# Altium integrated library Altium_BHD_IDC-Connectors (rev18b).IntLib: 18 symbols
Pins are listed as number, name and electrical type; pins without a type are passive.

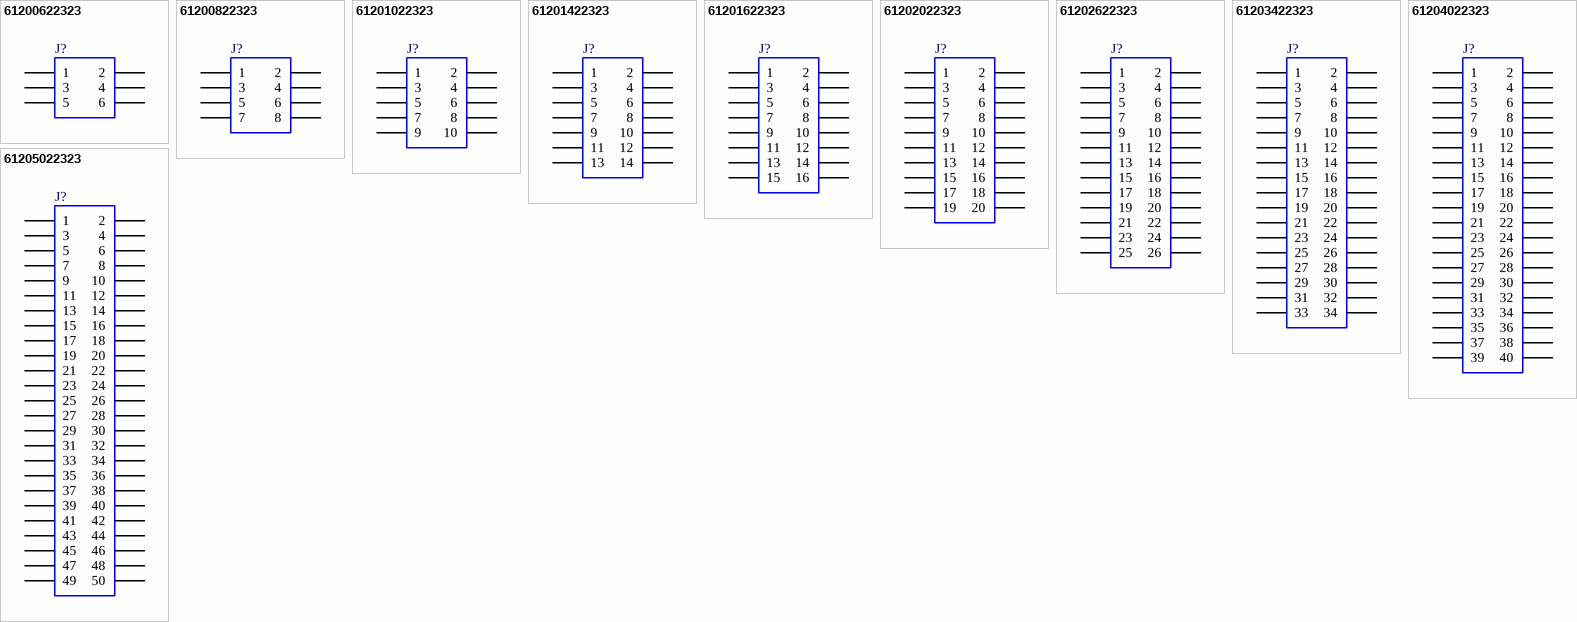
[diagram p0: symbols 61200622323 to 61205022323]

## 61200622323
designator J?
Board to Cable Transition Connector WR-BHD, pitch 2.54 mm, 6 pins; Part Number: 61200622323; Pin Number: 6; Pitch: 2.54 mm; Contact Resistance: 20 mOhm; Working Voltage: 250 VAC; ComponentLink1Description: Manufacturer; ComponentLink1URL: http://www.we-online.de; ComponentLink2Description: Datasheet; ComponentLink2URL: https://katalog.we-online.de/em/datasheet/6120xx22323.pdf; Published Date: September 2018; Publisher: Wurth Elektronik; Operating Temperature: -40 to 125 degC; Mounting Technology: THT; Packaging: Tray; Gender: Transition
footprint 61200622323
pins: 1, 2, 3, 4, 5, 6

## 61200822323
designator J?
Board to Cable Transition Connector WR-BHD, pitch 2.54 mm, 8 pins; Part Number: 61200822323; Pin Number: 8; Pitch: 2.54 mm; Contact Resistance: 20 mOhm; Working Voltage: 250 VAC; ComponentLink1Description: Manufacturer; ComponentLink1URL: http://www.we-online.de; ComponentLink2Description: Datasheet; ComponentLink2URL: https://katalog.we-online.de/em/datasheet/6120xx22323.pdf; Published Date: September 2018; Publisher: Wurth Elektronik; Operating Temperature: -40 to 125 degC; Mounting Technology: THT; Packaging: Tray; Gender: Transition
footprint 61200822323
pins: 1, 2, 3, 4, 5, 6, 7, 8

## 61201022323
designator J?
Board to Cable Transition Connector WR-BHD, pitch 2.54 mm, 10 pins; Part Number: 61201022323; Pin Number: 10; Pitch: 2.54 mm; Contact Resistance: 20 mOhm; Working Voltage: 250 VAC; ComponentLink1Description: Manufacturer; ComponentLink1URL: http://www.we-online.de; ComponentLink2Description: Datasheet; ComponentLink2URL: https://katalog.we-online.de/em/datasheet/6120xx22323.pdf; Published Date: September 2018; Publisher: Wurth Elektronik; Operating Temperature: -40 to 125 degC; Mounting Technology: THT; Packaging: Tray; Gender: Transition
footprint 61201022323
pins: 1, 2, 3, 4, 5, 6, 7, 8, 9, 10

## 61201422323
designator J?
Board to Cable Transition Connector WR-BHD, pitch 2.54 mm, 14 pins; Part Number: 61201422323; Pin Number: 14; Pitch: 2.54 mm; Contact Resistance: 20 mOhm; Working Voltage: 250 VAC; ComponentLink1Description: Manufacturer; ComponentLink1URL: http://www.we-online.de; ComponentLink2Description: Datasheet; ComponentLink2URL: https://katalog.we-online.de/em/datasheet/6120xx22323.pdf; Published Date: September 2018; Publisher: Wurth Elektronik; Operating Temperature: -40 to 125 degC; Mounting Technology: THT; Packaging: Tray; Gender: Transition
footprint 61201422323
pins: 1, 2, 3, 4, 5, 6, 7, 8, 9, 10, 11, 12, 13, 14

## 61201622323
designator J?
Board to Cable Transition Connector WR-BHD, pitch 2.54 mm, 16 pins; Part Number: 61201622323; Pin Number: 16; Pitch: 2.54 mm; Contact Resistance: 20 mOhm; Working Voltage: 250 VAC; ComponentLink1Description: Manufacturer; ComponentLink1URL: http://www.we-online.de; ComponentLink2Description: Datasheet; ComponentLink2URL: https://katalog.we-online.de/em/datasheet/6120xx22323.pdf; Published Date: September 2018; Publisher: Wurth Elektronik; Operating Temperature: -40 to 125 degC; Mounting Technology: THT; Packaging: Tray; Gender: Transition
footprint 61201622323
pins: 1, 2, 3, 4, 5, 6, 7, 8, 9, 10, 11, 12, 13, 14, 15, 16

## 61202022323
designator J?
Board to Cable Transition Connector WR-BHD, pitch 2.54 mm, 20 pins; Part Number: 61202022323; Pin Number: 20; Pitch: 2.54 mm; Contact Resistance: 20 mOhm; Working Voltage: 250 VAC; ComponentLink1Description: Manufacturer; ComponentLink1URL: http://www.we-online.de; ComponentLink2Description: Datasheet; ComponentLink2URL: https://katalog.we-online.de/em/datasheet/6120xx22323.pdf; Published Date: September 2018; Publisher: Wurth Elektronik; Operating Temperature: -40 to 125 degC; Mounting Technology: THT; Packaging: Tray; Gender: Transition
footprint 61202022323
pins: 1, 2, 3, 4, 5, 6, 7, 8, 9, 10, 11, 12, 13, 14, 15, 16, 17, 18, 19, 20

## 61202622323
designator J?
Board to Cable Transition Connector WR-BHD, pitch 2.54 mm, 26 pins; Part Number: 61202622323; Pin Number: 26; Pitch: 2.54 mm; Contact Resistance: 20 mOhm; Working Voltage: 250 VAC; ComponentLink1Description: Manufacturer; ComponentLink1URL: http://www.we-online.de; ComponentLink2Description: Datasheet; ComponentLink2URL: https://katalog.we-online.de/em/datasheet/6120xx22323.pdf; Published Date: September 2018; Publisher: Wurth Elektronik; Operating Temperature: -40 to 125 degC; Mounting Technology: THT; Packaging: Tray; Gender: Transition
footprint 61202622323
pins: 1, 2, 3, 4, 5, 6, 7, 8, 9, 10, 11, 12, 13, 14, 15, 16, 17, 18, 19, 20, 21, 22, 23, 24, 25, 26

## 61203422323
designator J?
Board to Cable Transition Connector WR-BHD, pitch 2.54 mm, 34 pins; Part Number: 61203422323; Pin Number: 34; Pitch: 2.54 mm; Contact Resistance: 20 mOhm; Working Voltage: 250 VAC; ComponentLink1Description: Manufacturer; ComponentLink1URL: http://www.we-online.de; ComponentLink2Description: Datasheet; ComponentLink2URL: https://katalog.we-online.de/em/datasheet/6120xx22323.pdf; Published Date: September 2018; Publisher: Wurth Elektronik; Operating Temperature: -40 to 125 degC; Mounting Technology: THT; Packaging: Tray; Gender: Transition
footprint 61203422323
pins: 1, 2, 3, 4, 5, 6, 7, 8, 9, 10, 11, 12, 13, 14, 15, 16, 17, 18, 19, 20, 21, 22, 23, 24, 25, 26, 27, 28, 29, 30, 31, 32, 33, 34

## 61204022323
designator J?
Board to Cable Transition Connector WR-BHD, pitch 2.54 mm, 40 pins; Part Number: 61204022323; Pin Number: 40; Pitch: 2.54 mm; Contact Resistance: 20 mOhm; Working Voltage: 250 VAC; ComponentLink1Description: Manufacturer; ComponentLink1URL: http://www.we-online.de; ComponentLink2Description: Datasheet; ComponentLink2URL: https://katalog.we-online.de/em/datasheet/6120xx22323.pdf; Published Date: September 2018; Publisher: Wurth Elektronik; Operating Temperature: -40 to 125 degC; Mounting Technology: THT; Packaging: Tray; Gender: Transition
footprint 61204022323
pins: 1, 2, 3, 4, 5, 6, 7, 8, 9, 10, 11, 12, 13, 14, 15, 16, 17, 18, 19, 20, 21, 22, 23, 24, 25, 26, 27, 28, 29, 30, 31, 32, 33, 34, 35, 36, 37, 38, 39, 40

## 61205022323
designator J?
Board to Cable Transition Connector WR-BHD, pitch 2.54 mm, 50 pins; Part Number: 61205022323; Pin Number: 50; Pitch: 2.54 mm; Contact Resistance: 20 mOhm; Working Voltage: 250 VAC; ComponentLink1Description: Manufacturer; ComponentLink1URL: http://www.we-online.de; ComponentLink2Description: Datasheet; ComponentLink2URL: https://katalog.we-online.de/em/datasheet/6120xx22323.pdf; Published Date: September 2018; Publisher: Wurth Elektronik; Operating Temperature: -40 to 125 degC; Mounting Technology: THT; Packaging: Tray; Gender: Transition
footprint 61205022323
pins: 1, 2, 3, 4, 5, 6, 7, 8, 9, 10, 11, 12, 13, 14, 15, 16, 17, 18, 19, 20, 21, 22, 23, 24, 25, 26, 27, 28, 29, 30, 31, 32, 33, 34, 35, 36, 37, 38, 39, 40, 41, 42, 43, 44, 45, 46, 47, 48, 49, 50


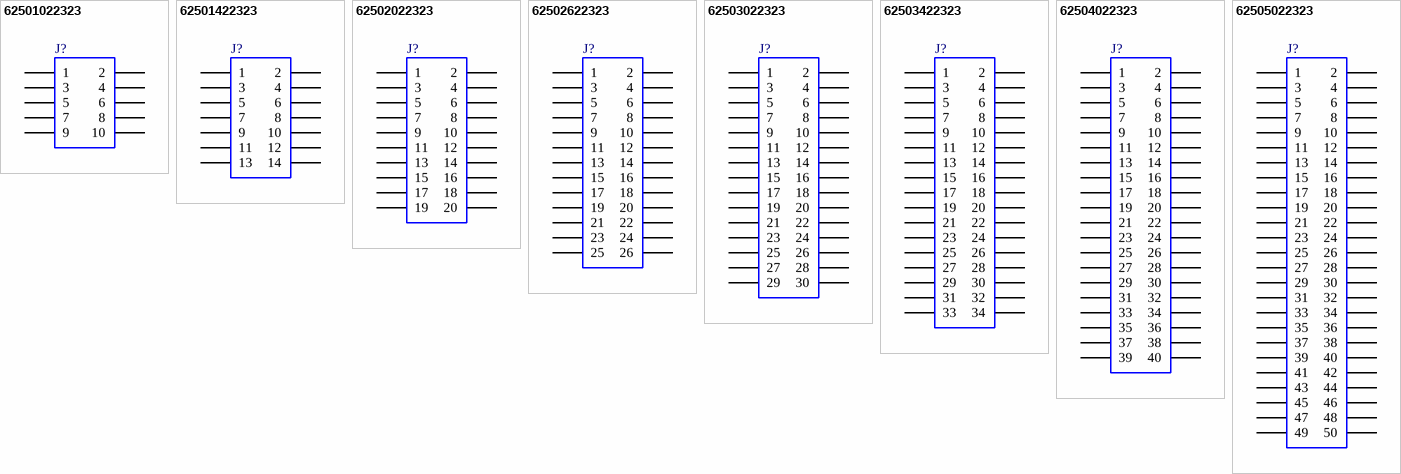
[diagram p1: symbols 62501022323 to 62505022323]

## 62501022323
designator J?
Board to Cable Transition Connector WR-BHD, pitch 2 mm, 10 pins; Part Number: 62501022323; Pin Number: 10; Pitch: 2 mm; Contact Resistance: 20 mOhm; Working Voltage: 250 VAC; ComponentLink1Description: Manufacturer; ComponentLink1URL: http://www.we-online.de; ComponentLink2Description: Datasheet; ComponentLink2URL: https://katalog.we-online.de/em/datasheet/6250xx22323.pdf; Published Date: September 2018; Publisher: Wurth Elektronik; Operating Temperature: -40 to 125 degC; Mounting Technology: THT; Packaging: Tray; Gender: Transition
footprint 62501022323
pins: 1, 2, 3, 4, 5, 6, 7, 8, 9, 10

## 62501422323
designator J?
Board to Cable Transition Connector WR-BHD, pitch 2 mm, 14 pins; Part Number: 62501422323; Pin Number: 14; Pitch: 2 mm; Contact Resistance: 20 mOhm; Working Voltage: 250 VAC; ComponentLink1Description: Manufacturer; ComponentLink1URL: http://www.we-online.de; ComponentLink2Description: Datasheet; ComponentLink2URL: https://katalog.we-online.de/em/datasheet/6250xx22323.pdf; Published Date: September 2018; Publisher: Wurth Elektronik; Operating Temperature: -40 to 125 degC; Mounting Technology: THT; Packaging: Tray; Gender: Transition
footprint 62501422323
pins: 1, 2, 3, 4, 5, 6, 7, 8, 9, 10, 11, 12, 13, 14

## 62502022323
designator J?
Board to Cable Transition Connector WR-BHD, pitch 2 mm, 20 pins; Part Number: 62502022323; Pin Number: 20; Pitch: 2 mm; Contact Resistance: 20 mOhm; Working Voltage: 250 VAC; ComponentLink1Description: Manufacturer; ComponentLink1URL: http://www.we-online.de; ComponentLink2Description: Datasheet; ComponentLink2URL: https://katalog.we-online.de/em/datasheet/6250xx22323.pdf; Published Date: September 2018; Publisher: Wurth Elektronik; Operating Temperature: -40 to 125 degC; Mounting Technology: THT; Packaging: Tray; Gender: Transition
footprint 62502022323
pins: 1, 2, 3, 4, 5, 6, 7, 8, 9, 10, 11, 12, 13, 14, 15, 16, 17, 18, 19, 20

## 62502622323
designator J?
Board to Cable Transition Connector WR-BHD, pitch 2 mm, 26 pins; Part Number: 62502622323; Pin Number: 26; Pitch: 2 mm; Contact Resistance: 20 mOhm; Working Voltage: 250 VAC; ComponentLink1Description: Manufacturer; ComponentLink1URL: http://www.we-online.de; ComponentLink2Description: Datasheet; ComponentLink2URL: https://katalog.we-online.de/em/datasheet/6250xx22323.pdf; Published Date: September 2018; Publisher: Wurth Elektronik; Operating Temperature: -40 to 125 degC; Mounting Technology: THT; Packaging: Tray; Gender: Transition
footprint 62502622323
pins: 1, 2, 3, 4, 5, 6, 7, 8, 9, 10, 11, 12, 13, 14, 15, 16, 17, 18, 19, 20, 21, 22, 23, 24, 25, 26

## 62503022323
designator J?
Board to Cable Transition Connector WR-BHD, pitch 2 mm, 30 pins; Part Number: 62503022323; Pin Number: 30; Pitch: 2 mm; Contact Resistance: 20 mOhm; Working Voltage: 250 VAC; ComponentLink1Description: Manufacturer; ComponentLink1URL: http://www.we-online.de; ComponentLink2Description: Datasheet; ComponentLink2URL: https://katalog.we-online.de/em/datasheet/6250xx22323.pdf; Published Date: September 2018; Publisher: Wurth Elektronik; Operating Temperature: -40 to 125 degC; Mounting Technology: THT; Packaging: Tray; Gender: Transition
footprint 62503022323
pins: 1, 2, 3, 4, 5, 6, 7, 8, 9, 10, 11, 12, 13, 14, 15, 16, 17, 18, 19, 20, 21, 22, 23, 24, 25, 26, 27, 28, 29, 30

## 62503422323
designator J?
Board to Cable Transition Connector WR-BHD, pitch 2 mm, 34 pins; Part Number: 62503422323; Pin Number: 34; Pitch: 2 mm; Contact Resistance: 20 mOhm; Working Voltage: 250 VAC; ComponentLink1Description: Manufacturer; ComponentLink1URL: http://www.we-online.de; ComponentLink2Description: Datasheet; ComponentLink2URL: https://katalog.we-online.de/em/datasheet/6250xx22323.pdf; Published Date: September 2018; Publisher: Wurth Elektronik; Operating Temperature: -40 to 125 degC; Mounting Technology: THT; Packaging: Tray; Gender: Transition
footprint 62503422323
pins: 1, 2, 3, 4, 5, 6, 7, 8, 9, 10, 11, 12, 13, 14, 15, 16, 17, 18, 19, 20, 21, 22, 23, 24, 25, 26, 27, 28, 29, 30, 31, 32, 33, 34

## 62504022323
designator J?
Board to Cable Transition Connector WR-BHD, pitch 2 mm, 40 pins; Part Number: 62504022323; Pin Number: 40; Pitch: 2 mm; Contact Resistance: 20 mOhm; Working Voltage: 250 VAC; ComponentLink1Description: Manufacturer; ComponentLink1URL: http://www.we-online.de; ComponentLink2Description: Datasheet; ComponentLink2URL: https://katalog.we-online.de/em/datasheet/6250xx22323.pdf; Published Date: September 2018; Publisher: Wurth Elektronik; Operating Temperature: -40 to 125 degC; Mounting Technology: THT; Packaging: Tray; Gender: Transition
footprint 62504022323
pins: 1, 2, 3, 4, 5, 6, 7, 8, 9, 10, 11, 12, 13, 14, 15, 16, 17, 18, 19, 20, 21, 22, 23, 24, 25, 26, 27, 28, 29, 30, 31, 32, 33, 34, 35, 36, 37, 38, 39, 40

## 62505022323
designator J?
Board to Cable Transition Connector WR-BHD, pitch 2 mm, 50 pins; Part Number: 62505022323; Pin Number: 50; Pitch: 2 mm; Contact Resistance: 20 mOhm; Working Voltage: 250 VAC; ComponentLink1Description: Manufacturer; ComponentLink1URL: http://www.we-online.de; ComponentLink2Description: Datasheet; ComponentLink2URL: https://katalog.we-online.de/em/datasheet/6250xx22323.pdf; Published Date: September 2018; Publisher: Wurth Elektronik; Operating Temperature: -40 to 125 degC; Mounting Technology: THT; Packaging: Tray; Gender: Transition
footprint 62505022323
pins: 1, 2, 3, 4, 5, 6, 7, 8, 9, 10, 11, 12, 13, 14, 15, 16, 17, 18, 19, 20, 21, 22, 23, 24, 25, 26, 27, 28, 29, 30, 31, 32, 33, 34, 35, 36, 37, 38, 39, 40, 41, 42, 43, 44, 45, 46, 47, 48, 49, 50